# Altium footprint library RJ45-SHIELD1.PcbLib: 1 footprints
Each footprint in its own frame and in the unit in brackets; x right, y up, seen from the top. Pads: shape width x height; smd on the part's side, far side on the other; paste and mask are expansions set on the pad; w line width, h text height; cw(c..) or ccw(c..) is an arc to the next point about the centre after c.
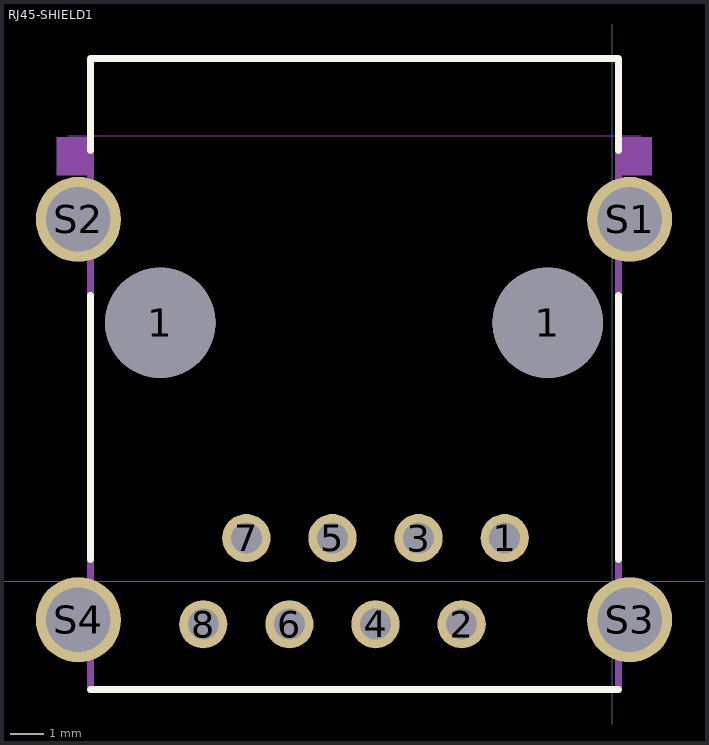
[diagram p0: the footprint, top view; thin cyan lines are the x and y axes]

## RJ45-SHIELD1 [mil]
pads (14):
  round 128 hole 128: 1(-525,300) 1(-75,300)
  round 56 hole 36: 1(-125,50) 2(-175,-50) 3(-225,50) 4(-275,-50) 5(-325,50) 6(-375,-50) 7(-425,50) 8(-475,-50)
  round 99 hole 75: S1(20,420) S2(-620,420) S3(20,-44.88) S4(-620,-44.88)
Top Overlay:
  lines w8: -606.18,-125.94 7,-125.94 ; -606.18,25 -606.18,332 ; -606.18,500 -606.18,607 7,607 7,500 ; 7,25 7,332
Mechanical 1:
  lines w1: -632.5,517 33,517
Mechanical 2:
  text "Ethernet" at -475,125 h108.5
Mechanical 4:
Mechanical 16:
  region: -609.06,516 -645.47,516 -645.47,471 -609.06,471
  region: 46,516 10,516 10,471 46,471
  lines w8: -606.18,-125.94 -606.18,32 ; -606.18,325 -606.18,507 ; 7,-125.94 7,32 ; 7,325 7,507